# EAGLE library part SW-1X5 (library ABI)
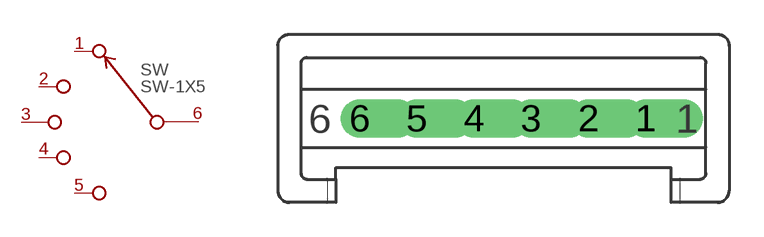
[diagram p0: symbol with the pads of SW-1X5; footprint SW-1X5]

Designator prefix SW

## SW-1X5  [SW-1X5]
1  1
2  2
3  3
4  4
5  5
6  6

## Footprint SW-1X5 (pad centres in mm)
drill 0.813 pad 1.676 offset: 1 6.25,0; 2 3.75,0; 3 1.25,0; 4 -1.25,0; 5 -3.75,0; 6 -6.25,0